# Altium footprint library M20-8890845 Header.PcbLib: 2 footprints
Each footprint in its own frame and in the unit in brackets; x right, y up, seen from the top. Pads: shape width x height; smd on the part's side, far side on the other; paste and mask are expansions set on the pad; w line width, h text height; cw(c..) or ccw(c..) is an arc to the next point about the centre after c.
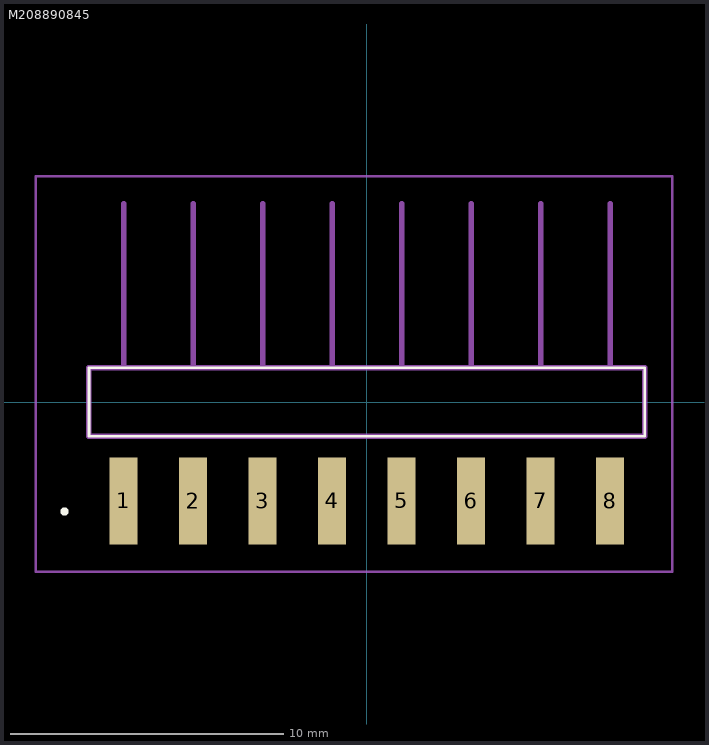
[diagram p0: the footprints below, top view; thin cyan lines are the x and y axes]

## M208890845 [mm]
pads (8):
  rect 1.02x3.17 smd: 1(-8.89,-3.615) 2(-6.35,-3.615) 3(-3.81,-3.615) 4(-1.27,-3.615) 5(1.27,-3.615) 6(3.81,-3.615) 7(6.35,-3.615) 8(8.89,-3.615)
Top Overlay:
  lines w0.1: -10.16,-1.25 -10.16,1.25 10.16,1.25 10.16,-1.25 -10.16,-1.25
  lines w0.2: -11.1,-4 ccw(c-11.05,-4) -11,-4 ; -11.1,-4 cw(c-11.05,-4) -11,-4 ; -11.1,-4 ccw(c-11.05,-4) -11,-4
Mechanical 13:
  lines w0.2: -10.16,-1.25 -10.16,1.25 10.16,1.25 10.16,-1.25 -10.16,-1.25 ; -8.89,1.25 -8.89,7.25 -8.89,1.25 ; -6.35,1.25 -6.35,7.25 -6.35,1.25 ; -3.81,1.25 -3.81,7.25 -3.81,1.25 ; -1.27,1.25 -1.27,7.25 -1.27,1.25 ; 1.27,1.25 1.27,7.25 1.27,1.25 ; 3.81,1.25 3.81,7.25 3.81,1.25 ; 6.35,1.25 6.35,7.25 6.35,1.25 ; 8.89,1.25 8.89,7.25 8.89,1.25
Mechanical 15:
  lines w0.1: -12.1,-6.2 -12.1,8.25 11.16,8.25 11.16,-6.2 -12.1,-6.2
3D body "M20-8890845.stp": height 2.5, standoff 0, extent -10.2,-4.396 10.12,7.1

## PCBComponent_1 [mil]